# EAGLE library part FT230X (library ftdi)
The FT230X is a USB to serial UART interface with optimised pin count for smaller PCB designs
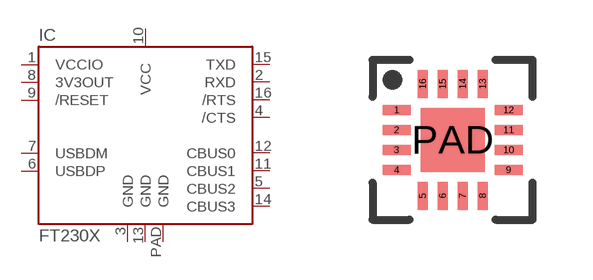
[diagram p0: symbol with the pads of QFN16; footprint QFN16]

Designator prefix IC

## FT230XQ  [QFN16]
1  VCCIO  pwr
2  RXD  in
3  GND  pwr
4  /CTS  in
5  CBUS2
6  USBDP
7  USBDM
8  3V3OUT  sup
9  /RESET  in
10  VCC  pwr
11  CBUS1
12  CBUS0
13  GND  pwr
14  CBUS3
15  TXD  out
16  /RTS  out
PAD  GND  pwr

## Footprint QFN16 (pad centres in mm)
smd 0.7 x 0.25: 1 -1.4,0.75; 2 -1.4,0.25; 3 -1.4,-0.25; 4 -1.4,-0.75; 9 1.4,-0.75; 10 1.4,-0.25; 11 1.4,0.25; 12 1.4,0.75
smd 0.25 x 0.7: 5 -0.75,-1.4; 6 -0.25,-1.4; 7 0.25,-1.4; 8 0.75,-1.4; 13 0.75,1.4; 14 0.25,1.4; 15 -0.25,1.4; 16 -0.75,1.4
smd 1.6 x 1.6: PAD 0,0